# EAGLE library part 7SEG-3-0.56-CA (library dtb)
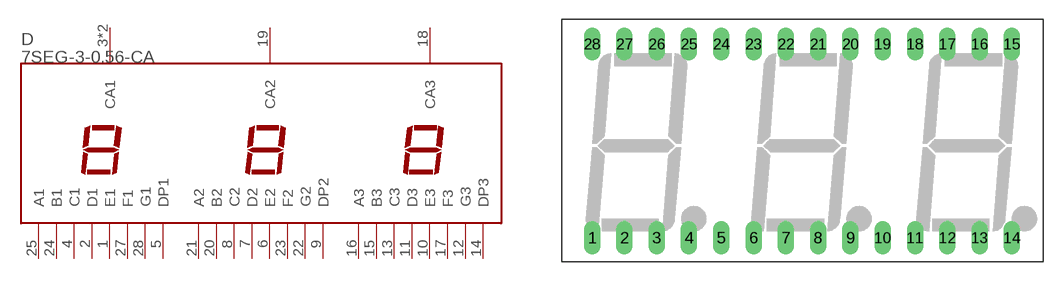
[diagram p3: symbol with the pads of 7-SEG-3-0.56; footprint 7-SEG-3-0.56]

Designator prefix D

## 7SEG-3-0.56-CA  [7-SEG-3-0.56]
1  E1  pas
2  D1  pas
3  CA1  pas
4  C1  pas
5  DP1  pas
6  E2  pas
7  D2  pas
8  C2  pas
9  DP2  pas
10  E3  pas
11  D3  pas
12  G3  pas
13  C3  pas
14  DP3  pas
15  B3  pas
16  A3  pas
17  F3  pas
18  CA3  pas
19  CA2  pas
20  B2  pas
21  A2  pas
22  G2  pas
23  F2  pas
24  B1  pas
25  A1  pas
26  CA1  pas
27  F1  pas
28  G1  pas

## Footprint 7-SEG-3-0.56 (pad centres in mm)
drill 0.8 long: 1 0,0; 2 2.54,0; 3 5.08,0; 4 7.62,0; 5 10.16,0; 6 12.7,0; 7 15.24,0; 8 17.78,0; 9 20.32,0; 10 22.86,0; 11 25.4,0; 12 27.94,0; 13 30.48,0; 14 33.02,0; 15 33.02,15.24; 16 30.48,15.24; 17 27.94,15.24; 18 25.4,15.24; 19 22.86,15.24; 20 20.32,15.24; 21 17.78,15.24; 22 15.24,15.24; 23 12.7,15.24; 24 10.16,15.24; 25 7.62,15.24; 26 5.08,15.24; 27 2.54,15.24; 28 0,15.24